# Altium footprint library ELCAP_HOR_D18_H37_P7.PcbLib: 1 footprints
Each footprint in its own frame and in the unit in brackets; x right, y up, seen from the top. Pads: shape width x height; smd on the part's side, far side on the other; paste and mask are expansions set on the pad; w line width, h text height; cw(c..) or ccw(c..) is an arc to the next point about the centre after c.
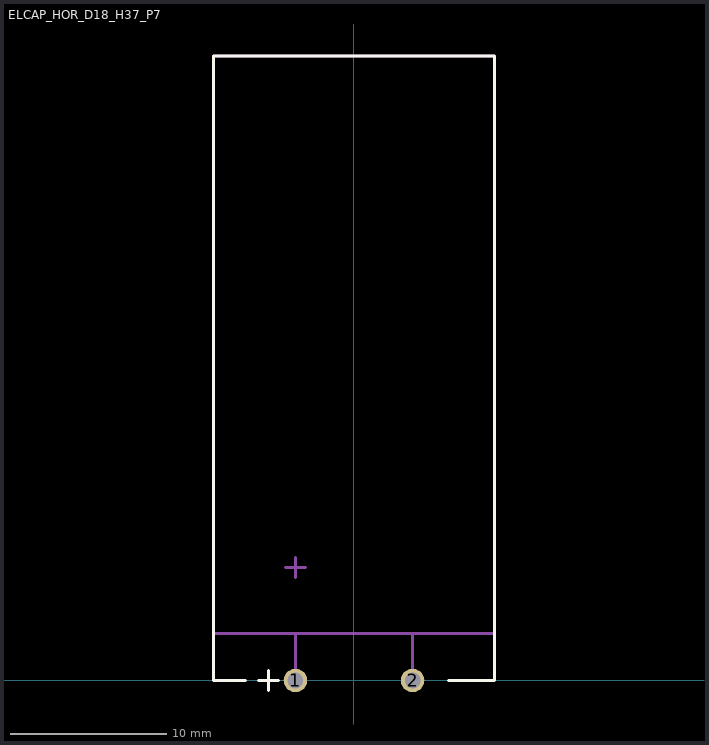
[diagram p0: the footprint, top view; thin cyan lines are the x and y axes]

## ELCAP_HOR_D18_H37_P7 [mm]
pads (2):
  round 1.5 hole 1: 1(-3.75,0) 2(3.75,0)
Top Overlay:
  lines w0.2: -6.96,0 -9,0 -9,40 9,40 9,0 6.04,0 ; -6.107,0 -4.837,0 ; -5.472,-0.635 -5.472,0.635
TopAssy:
  lines w0.2: -4.385,7.243 -3.115,7.243 ; -3.75,0 -3.75,3 ; -3.75,6.608 -3.75,7.878 ; 3.75,0 3.75,3 ; -9,3 9,3 9,40 -9,40 -9,3
3D body: height 9.15, standoff 8.55, extent 3.451,0 4.049,3
3D body: height 9.15, standoff 8.55, extent -4.049,0 -3.451,3
3D body: height 9, standoff 0, extent 3.45,-0.297 4.049,0.3
3D body: height 9, standoff 0, extent -4.05,-0.297 -3.451,0.3
3D body: height 18, standoff 0, extent -9,3.048 9,40.048